# Altium schematic symbol library carrier_board.SchLib: 44 symbols
Pins are listed as number, name and electrical type; pins without a type are passive.

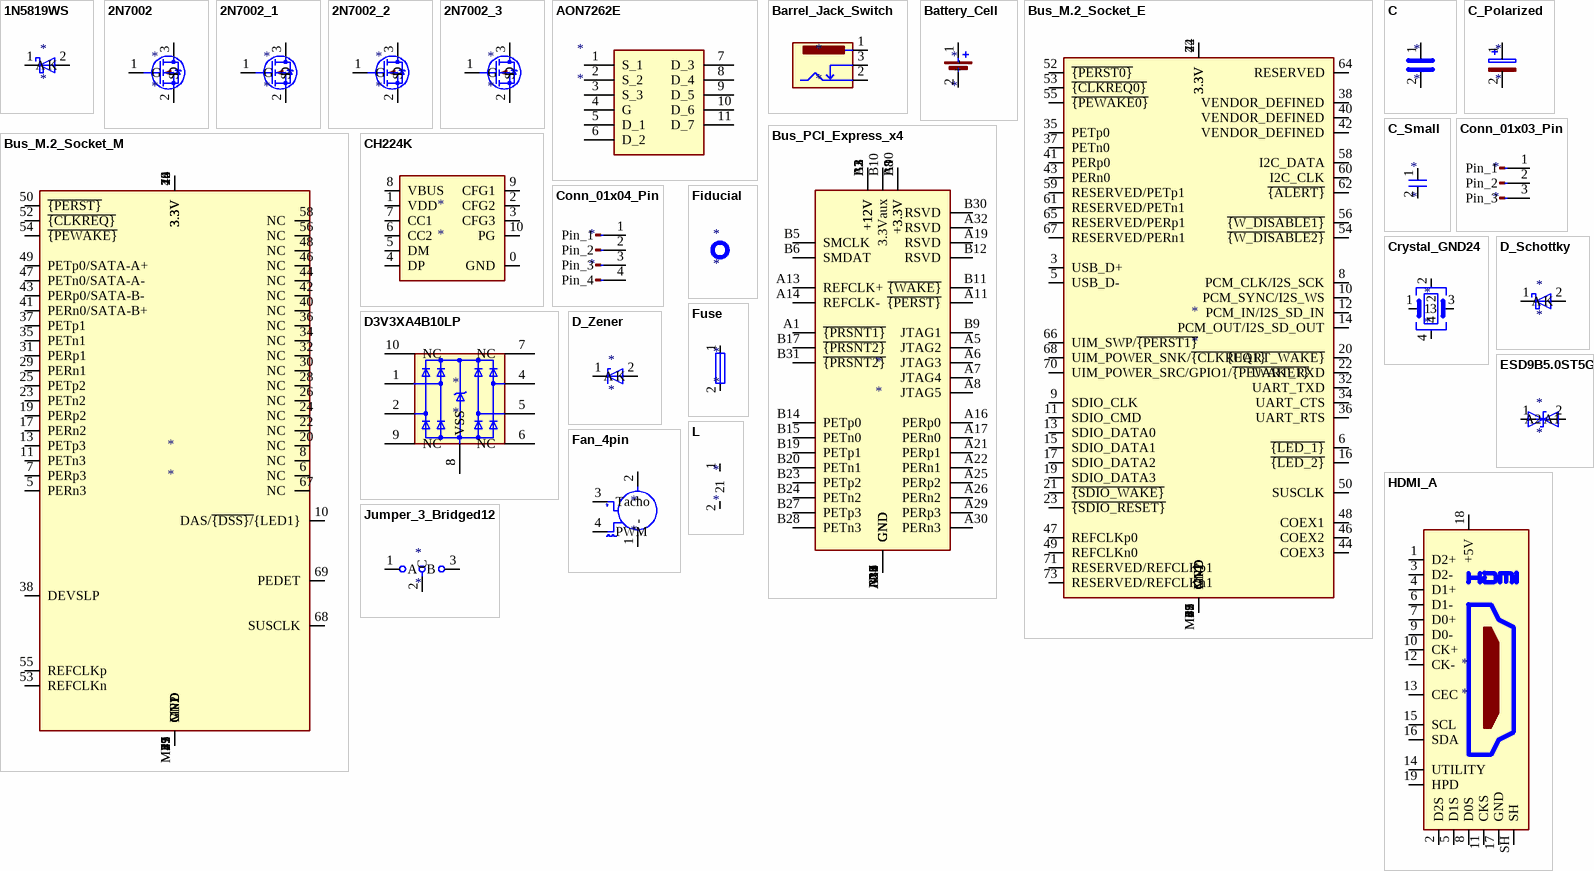
[diagram p0: symbols 1N5819WS to L]

## 1N5819WS
designator *
pins: 1 K, 2 A

## 2N7002
designator *
pins: 1 G, 2 S, 3 D

## 2N7002_1
designator *
pins: 1 G, 2 S, 3 D

## 2N7002_2
designator *
pins: 1 G, 2 S, 3 D

## 2N7002_3
designator *
pins: 1 G, 2 S, 3 D

## AON7262E
designator *
pins: 1 S_1, 2 S_2, 3 S_3, 4 G, 5 D_1, 6 D_2, 7 D_3, 8 D_4, 9 D_5, 10 D_6, 11 D_7

## Barrel_Jack_Switch
designator *
pins: 1, 2, 3

## Battery_Cell
designator *
pins: 1 +, 2 -

## Bus_M.2_Socket_E
designator *
pins: 1 GND, 2 3.3V, 3 USB_D+, 4 3.3V, 5 USB_D-, 6 ~{{LED_1}}, 7 GND, 8 PCM_CLK/I2S_SCK, 9 SDIO_CLK, 10 PCM_SYNC/I2S_WS, 11 SDIO_CMD, 12 PCM_IN/I2S_SD_IN, 13 SDIO_DATA0, 14 PCM_OUT/I2S_SD_OUT, 15 SDIO_DATA1, 16 ~{{LED_2}}, 17 SDIO_DATA2, 18 GND, 19 SDIO_DATA3, 20 ~{{UART_WAKE}}, 21 ~{{SDIO_WAKE}}, 22 UART_RXD, 23 ~{{SDIO_RESET}}, 32 UART_TXD, 33 GND, 34 UART_CTS, 35 PETp0, 36 UART_RTS, 37 PETn0, 38 VENDOR_DEFINED, 39 GND, 40 VENDOR_DEFINED, 41 PERp0, 42 VENDOR_DEFINED, 43 PERn0, 44 COEX3, 45 GND, 46 COEX2, 47 REFCLKp0, 48 COEX1, 49 REFCLKn0, 50 SUSCLK, 51 GND, 52 ~{{PERST0}}, 53 ~{{CLKREQ0}}, 54 ~{{W_DISABLE2}}, 55 ~{{PEWAKE0}}, 56 ~{{W_DISABLE1}}, 57 GND, 58 I2C_DATA, 59 RESERVED/PETp1, 60 I2C_CLK, 61 RESERVED/PETn1, 62 ~{{ALERT}}, 63 GND, 64 RESERVED, 65 RESERVED/PERp1, 66 UIM_SWP/~{{PERST1}}, 67 RESERVED/PERn1, 68 UIM_POWER_SNK/~{{CLKREQ1}}, 69 GND, 70 UIM_POWER_SRC/GPIO1/~{{PEWAKE1}}, 71 RESERVED/REFCLKp1, 72 3.3V, 73 RESERVED/REFCLKn1, 74 3.3V, 75 GND, MP1, MP2

## Bus_M.2_Socket_M
designator *
pins: 1 GND, 2 3.3V, 3 GND, 4 3.3V, 5 PERn3, 6 NC, 7 PERp3, 8 NC, 9 GND, 10 DAS/~{{DSS}/}{LED1}, 11 PETn3, 12 3.3V, 13 PETp3, 14 3.3V, 15 GND, 16 3.3V, 17 PERn2, 18 3.3V, 19 PERp2, 20 NC, 21 GND, 22 NC, 23 PETn2, 24 NC, 25 PETp2, 26 NC, 27 GND, 28 NC, 29 PERn1, 30 NC, 31 PERp1, 32 NC, 33 GND, 34 NC, 35 PETn1, 36 NC, 37 PETp1, 38 DEVSLP, 39 GND, 40 NC, 41 PERn0/SATA-B+, 42 NC, 43 PERp0/SATA-B-, 44 NC, 45 GND, 46 NC, 47 PETn0/SATA-A-, 48 NC, 49 PETp0/SATA-A+, 50 ~{{PERST}}, 51 GND, 52 ~{{CLKREQ}}, 53 REFCLKn, 54 ~{{PEWAKE}}, 55 REFCLKp, 56 NC, 57 GND, 58 NC, 67 NC, 68 SUSCLK, 69 PEDET, 70 3.3V, 71 GND, 72 3.3V, 73 GND, 74 3.3V, 75 GND, MP1, MP2

## Bus_PCI_Express_x4
designator *
pins: A1 ~{{PRSNT1}}, A2 +12V, A3 +12V, A4 GND, A5 JTAG2, A6 JTAG3, A7 JTAG4, A8 JTAG5, A9 +3.3V, A10 +3.3V, A11 ~{{PERST}}, A12 GND, A13 REFCLK+, A14 REFCLK-, A15 GND, A16 PERp0, A17 PERn0, A18 GND, A19 RSVD, A20 GND, A21 PERp1, A22 PERn1, A23 GND, A24 GND, A25 PERp2, A26 PERn2, A27 GND, A28 GND, A29 PERp3, A30 PERn3, A31 GND, A32 RSVD, B1 +12V, B2 +12V, B3 +12V, B4 GND, B5 SMCLK, B6 SMDAT, B7 GND, B8 +3.3V, B9 JTAG1, B10 3.3Vaux, B11 ~{{WAKE}}, B12 RSVD, B13 GND, B14 PETp0, B15 PETn0, B16 GND, B17 ~{{PRSNT2}}, B18 GND, B19 PETp1, B20 PETn1, B21 GND, B22 GND, B23 PETp2, B24 PETn2, B25 GND, B26 GND, B27 PETp3, B28 PETn3, B29 GND, B30 RSVD, B31 ~{{PRSNT2}}, B32 GND

## C
designator *
pins: 1, 2

## C_Polarized
designator *
pins: 1, 2

## C_Small
designator *
pins: 1, 2

## CH224K
designator *
pins: 0 GND, 1 VDD, 2 CFG2, 3 CFG3, 4 DP, 5 DM, 6 CC2, 7 CC1, 8 VBUS, 9 CFG1, 10 PG

## Conn_01x03_Pin
designator *
pins: 1 Pin_1, 2 Pin_2, 3 Pin_3

## Conn_01x04_Pin
designator *
pins: 1 Pin_1, 2 Pin_2, 3 Pin_3, 4 Pin_4

## Crystal_GND24
designator *
pins: 1, 2, 3, 4

## D3V3XA4B10LP
designator *
pins: 1, 2, 3 VSS, 4, 5, 6 NC, 7 NC, 8 VSS, 9 NC, 10 NC

## D_Schottky
designator *
pins: 1 K, 2 A

## D_Zener
designator *
pins: 1 K, 2 A

## ESD9B5.0ST5G
designator *
pins: 1 A1, 2 A2

## Fan_4pin
designator *
pins: 1 -, 2 +, 3 Tacho, 4 PWM

## Fiducial
designator *

## Fuse
designator *
pins: 1, 2

## HDMI_A
designator *
pins: 1 D2+, 2 D2S, 3 D2-, 4 D1+, 5 D1S, 6 D1-, 7 D0+, 8 D0S, 9 D0-, 10 CK+, 11 CKS, 12 CK-, 13 CEC, 14 UTILITY, 15 SCL, 16 SDA, 17 GND, 18 +5V, 19 HPD, SH

## Jumper_3_Bridged12
designator *
pins: 1 A, 2 C, 3 B

## L
designator *
pins: 1, 2

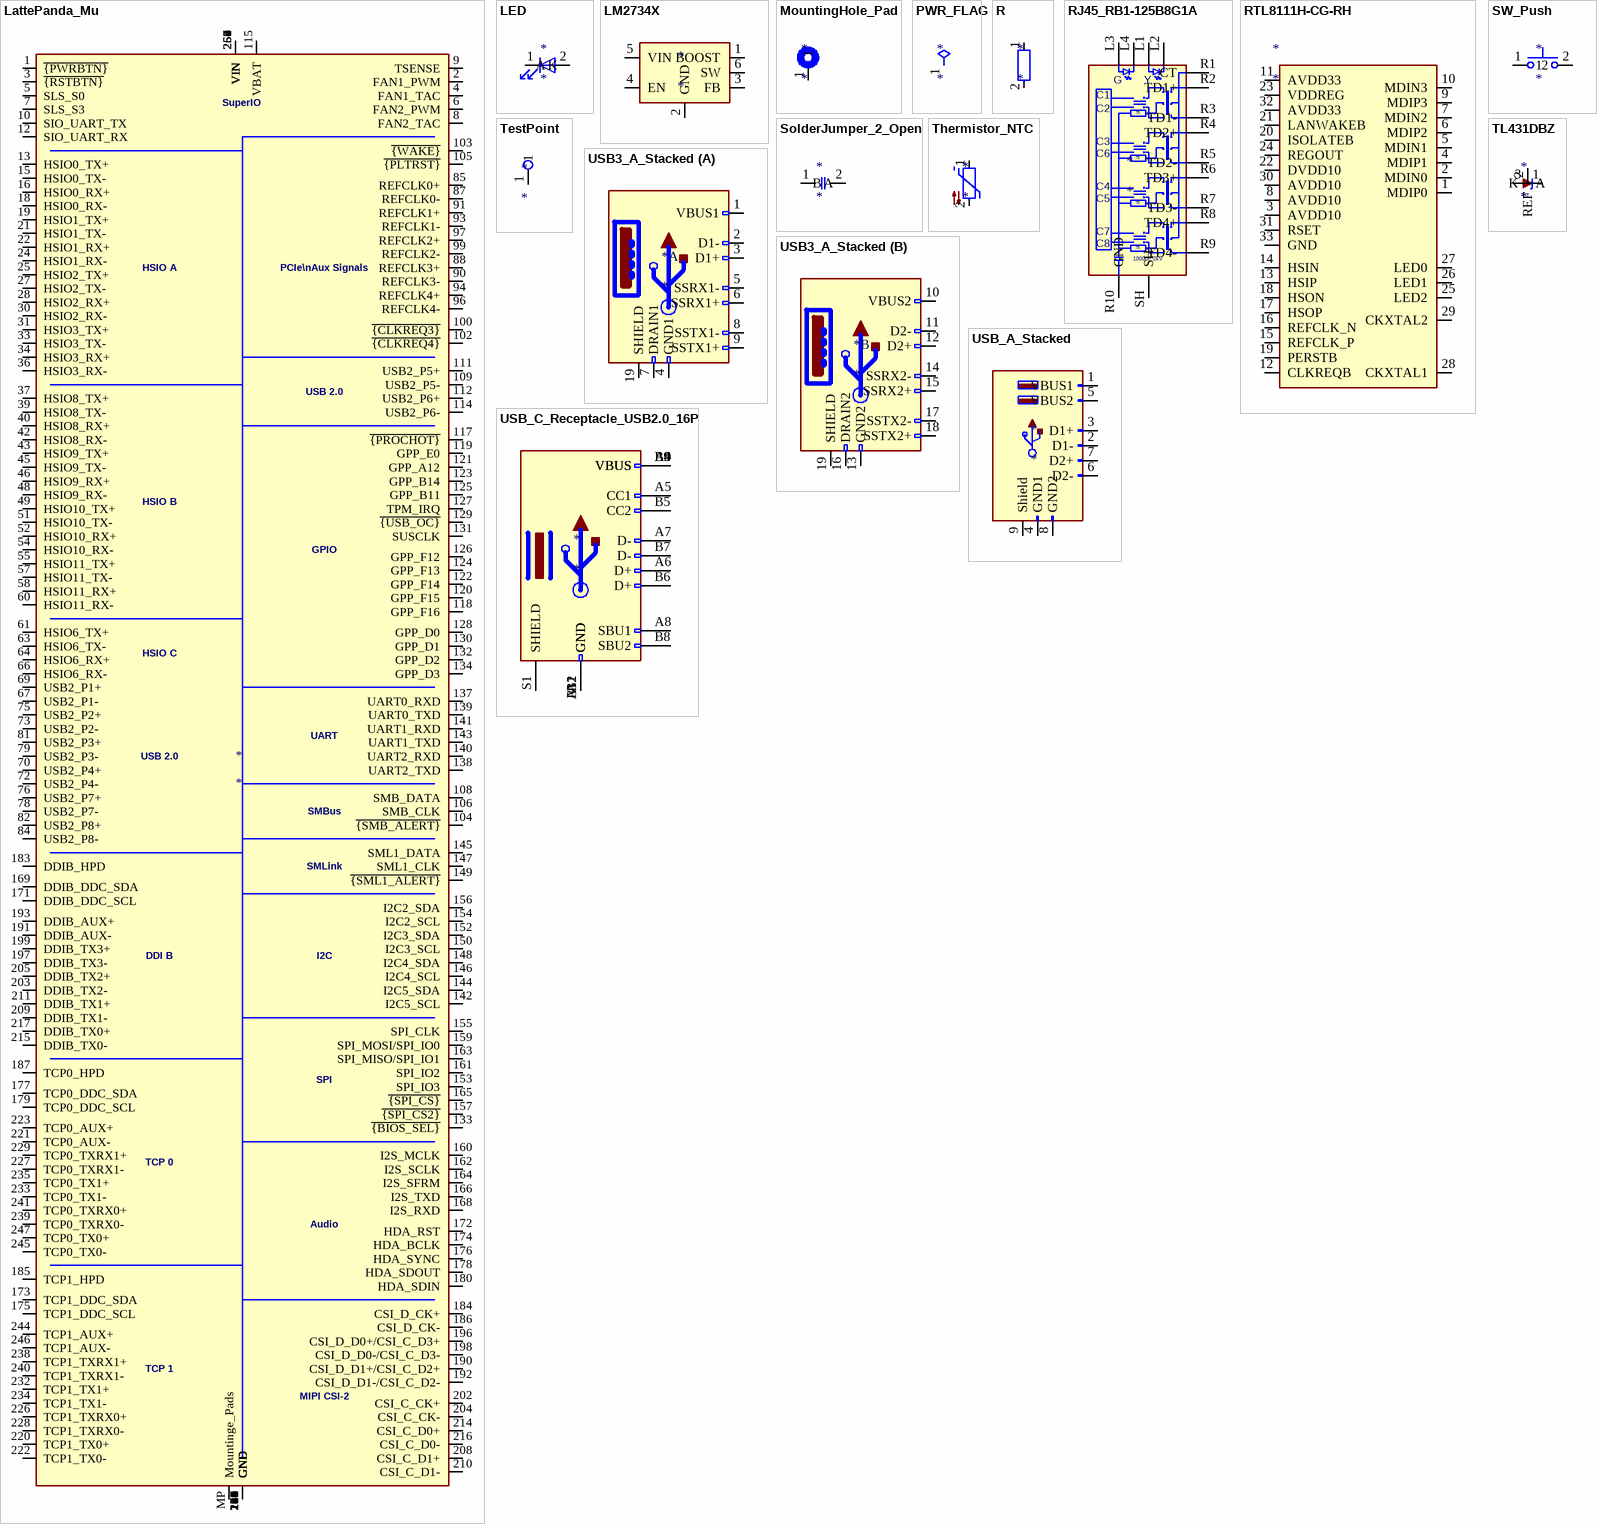
[diagram p1: symbols LattePanda_Mu to USB_C_Receptacle_USB2.0_16P]

## LattePanda_Mu
designator *
pins: 1 ~{{PWRBTN}}, 2 FAN1_PWM, 3 ~{{RSTBTN}}, 4 FAN1_TAC, 5 SLS_S0, 6 FAN2_PWM, 7 SLS_S3, 8 FAN2_TAC, 9 TSENSE, 10 SIO_UART_TX, 11 GND, 12 SIO_UART_RX, 13 HSIO0_TX+, 14 GND, 15 HSIO0_TX-, 16 HSIO0_RX+, 17 GND, 18 HSIO0_RX-, 19 HSIO1_TX+, 20 GND, 21 HSIO1_TX-, 22 HSIO1_RX+, 23 GND, 24 HSIO1_RX-, 25 HSIO2_TX+, 26 GND, 27 HSIO2_TX-, 28 HSIO2_RX+, 29 GND, 30 HSIO2_RX-, 31 HSIO3_TX+, 32 GND, 33 HSIO3_TX-, 34 HSIO3_RX+, 35 GND, 36 HSIO3_RX-, 37 HSIO8_TX+, 38 GND, 39 HSIO8_TX-, 40 HSIO8_RX+, 41 GND, 42 HSIO8_RX-, 43 HSIO9_TX+, 44 GND, 45 HSIO9_TX-, 46 HSIO9_RX+, 47 GND, 48 HSIO9_RX-, 49 HSIO10_TX+, 50 GND, 51 HSIO10_TX-, 52 HSIO10_RX+, 53 GND, 54 HSIO10_RX-, 55 HSIO11_TX+, 56 GND, 57 HSIO11_TX-, 58 HSIO11_RX+, 59 GND, 60 HSIO11_RX-, 61 HSIO6_TX+, 62 GND, 63 HSIO6_TX-, 64 HSIO6_RX+, 65 GND, 66 HSIO6_RX-, 67 USB2_P1-, 68 GND, 69 USB2_P1+, 70 USB2_P4+, 71 GND, 72 USB2_P4-, 73 USB2_P2-, 74 GND, 75 USB2_P2+, 76 USB2_P7+, 77 GND, 78 USB2_P7-, 79 USB2_P3-, 80 GND, 81 USB2_P3+, 82 USB2_P8+, 83 GND, 84 USB2_P8-, 85 REFCLK0+, 86 GND, 87 REFCLK0-, 88 REFCLK3+, 89 GND, 90 REFCLK3-, 91 REFCLK1+, 92 GND, 93 REFCLK1-, 94 REFCLK4+, 95 GND, 96 REFCLK4-, 97 REFCLK2+, 98 GND, 99 REFCLK2-, 100 ~{{CLKREQ3}}, 101 GND, 102 ~{{CLKREQ4}}, 103 ~{{WAKE}}, 104 ~{{SMB_ALERT}}, 105 ~{{PLTRST}}, 106 SMB_CLK, 107 GND, 108 SMB_DATA, 109 USB2_P5-, 110 GND, 111 USB2_P5+, 112 USB2_P6+, 113 GND, 114 USB2_P6-, 115 VBAT, 116 GND, 117 ~{{PROCHOT}}, 118 GPP_F16, 119 GPP_E0, 120 GPP_F15, 121 GPP_A12, 122 GPP_F14, 123 GPP_B14, 124 GPP_F13, 125 GPP_B11, 126 GPP_F12, 127 TPM_IRQ, 128 GPP_D0, 129 ~{{USB_OC}}, 130 GPP_D1, 131 SUSCLK, 132 GPP_D2, 133 ~{{BIOS_SEL}}, 134 GPP_D3, 135 GND, 136 GND, 137 UART0_RXD, 138 UART2_TXD, 139 UART0_TXD, 140 UART2_RXD, 141 UART1_RXD, 142 I2C5_SCL, 143 UART1_TXD, 144 I2C5_SDA, 145 SML1_DATA, 146 I2C4_SCL, 147 SML1_CLK, 148 I2C4_SDA, 149 ~{{SML1_ALERT}}, 150 I2C3_SCL, 151 GND, 152 I2C3_SDA, 153 SPI_IO3, 154 I2C2_SCL, 155 SPI_CLK, 156 I2C2_SDA, 157 ~{{SPI_CS2}}, 158 GND, 159 SPI_MOSI/SPI_IO0, 160 I2S_MCLK, 161 SPI_IO2, 162 I2S_SCLK, 163 SPI_MISO/SPI_IO1, 164 I2S_SFRM, 165 ~{{SPI_CS}}, 166 I2S_TXD, 167 GND, 168 I2S_RXD, 169 DDIB_DDC_SDA, 170 GND, 171 DDIB_DDC_SCL, 172 HDA_RST, 173 TCP1_DDC_SDA, 174 HDA_BCLK, 175 TCP1_DDC_SCL, 176 HDA_SYNC, 177 TCP0_DDC_SDA, 178 HDA_SDOUT, 179 TCP0_DDC_SCL, 180 HDA_SDIN, 181 GND, 182 GND, 183 DDIB_HPD, 184 CSI_D_CK+, 185 TCP1_HPD, 186 CSI_D_CK-, 187 TCP0_HPD, 188 GND, 189 GND, 190 CSI_D_D1+/CSI_C_D2+, 191 DDIB_AUX-, 192 CSI_D_D1-/CSI_C_D2-, 193 DDIB_AUX+, 194 GND, 195 GND, 196 CSI_D_D0+/CSI_C_D3+, 197 DDIB_TX3-, 198 CSI_D_D0-/CSI_C_D3-, 199 DDIB_TX3+, 200 GND, 201 GND, 202 CSI_C_CK+, 203 DDIB_TX2-, 204 CSI_C_CK-, 205 DDIB_TX2+, 206 GND, 207 GND, 208 CSI_C_D1+, 209 DDIB_TX1-, 210 CSI_C_D1-, 211 DDIB_TX1+, 212 GND, 213 GND, 214 CSI_C_D0+, 215 DDIB_TX0-, 216 CSI_C_D0-, 217 DDIB_TX0+, 218 GND, 219 GND, 220 TCP1_TX0+, 221 TCP0_AUX-, 222 TCP1_TX0-, 223 TCP0_AUX+, 224 GND, 225 GND, 226 TCP1_TXRX0+, 227 TCP0_TXRX1-, 228 TCP1_TXRX0-, 229 TCP0_TXRX1+, 230 GND, 231 GND, 232 TCP1_TX1+, 233 TCP0_TX1-, 234 TCP1_TX1-, 235 TCP0_TX1+, 236 GND, 237 GND, 238 TCP1_TXRX1+, 239 TCP0_TXRX0-, 240 TCP1_TXRX1-, 241 TCP0_TXRX0+, 242 GND, 243 GND, 244 TCP1_AUX+, 245 TCP0_TX0-, 246 TCP1_AUX-, 247 TCP0_TX0+, 248 GND, 249 GND, 250 VIN, 251 VIN, 252 VIN, 253 VIN, 254 VIN, 255 VIN, 256 VIN, 257 VIN, 258 VIN, 259 VIN, 260 VIN, MP Mountinge_Pads
text: SuperIO; HSIO A; PCIe\nAux Signals; USB 2.0; HSIO B; GPIO; HSIO C; UART; SMBus; SMLink; DDI B; I2C; SPI; TCP 0; Audio; TCP 1; MIPI CSI-2

## LED
designator *
pins: 1 K, 2 A

## LM2734X
designator *
pins: 1 BOOST, 2 GND, 3 FB, 4 EN, 5 VIN, 6 SW

## MountingHole_Pad
designator *
pins: 1

## PWR_FLAG
designator *  (graphical)
pins: 1

## R
designator *
pins: 1, 2

## RJ45_RB1-125B8G1A
designator *
pins: L1, L2, L3, L4, R1 CT, R2 TD1+, R3 TD1-, R4 TD2+, R5 TD2-, R6 TD3+, R7 TD3-, R8 TD4+, R9 TD4-, R10 GND, SH
text: G; Y; C1; C2; 75; C3; C6; C4; C5; C7; C8; 1000pF 2kV

## RTL8111H-CG-RH
designator *
pins: 1 MDIP0, 2 MDIN0, 3 AVDD10, 4 MDIP1, 5 MDIN1, 6 MDIP2, 7 MDIN2, 8 AVDD10, 9 MDIP3, 10 MDIN3, 11 AVDD33, 12 CLKREQB, 13 HSIP, 14 HSIN, 15 REFCLK_P, 16 REFCLK_N, 17 HSOP, 18 HSON, 19 PERSTB, 20 ISOLATEB, 21 LANWAKEB, 22 DVDD10, 23 VDDREG, 24 REGOUT, 25 LED2, 26 LED1, 27 LED0, 28 CKXTAL1, 29 CKXTAL2, 30 AVDD10, 31 RSET, 32 AVDD33, 33 GND

## SolderJumper_2_Open
designator *
pins: 1 A, 2 B

## SW_Push
designator *
pins: 1, 2

## TestPoint
designator *
pins: 1

## Thermistor_NTC
designator *
pins: 1, 2

## TL431DBZ
designator *
pins: 1 K, 2 REF, 3 A

## USB3_A_Stacked
designator *
part A pins: 1 VBUS1, 2 D1-, 3 D1+, 4 GND1, 5 SSRX1-, 6 SSRX1+, 7 DRAIN1, 8 SSTX1-, 9 SSTX1+, 19 SHIELD
part B pins: 10 VBUS2, 11 D2-, 12 D2+, 13 GND2, 14 SSRX2-, 15 SSRX2+, 16 DRAIN2, 17 SSTX2-, 18 SSTX2+, 19 SHIELD

## USB_A_Stacked
designator *
pins: 1 VBUS1, 2 D1-, 3 D1+, 4 GND1, 5 VBUS2, 6 D2-, 7 D2+, 8 GND2, 9 Shield

## USB_C_Receptacle_USB2.0_16P
designator *
pins: A1 GND, A4 VBUS, A5 CC1, A6 D+, A7 D-, A8 SBU1, A9 VBUS, A12 GND, B1 GND, B4 VBUS, B5 CC2, B6 D+, B7 D-, B8 SBU2, B9 VBUS, B12 GND, S1 SHIELD